# EAGLE library part FT25H16S-RT (library johnmamish-fremont-micro-devices)
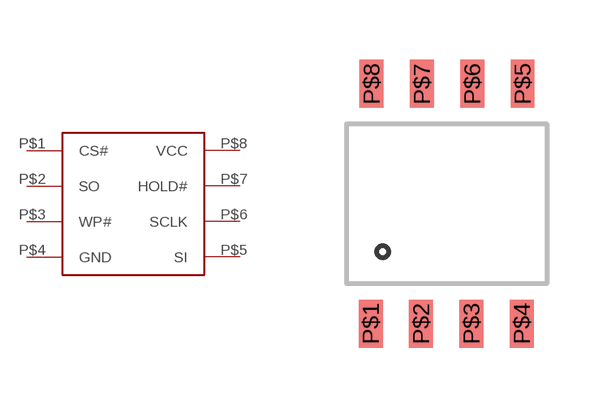
[diagram p0: symbol with the pads of FT25H16S-RT; footprint FT25H16S-RT]

Designator prefix -

## FT25H16S-RT  [FT25H16S-RT]
P$1  CS#
P$2  SO
P$3  WP#
P$4  GND
P$5  SI
P$6  SCLK
P$7  HOLD#
P$8  VCC

## Footprint FT25H16S-RT (pad centres in mm)
smd 0.6 x 1.2: P$1 -1.9,-3; P$2 -0.64,-3; P$3 0.62,-3; P$4 1.88,-3; P$5 1.9,3; P$6 0.64,3; P$7 -0.62,3; P$8 -1.88,3